# Altium footprint library Fuses.PcbLib: 2 footprints
Each footprint in its own frame and in the unit in brackets; x right, y up, seen from the top. Pads: shape width x height; smd on the part's side, far side on the other; paste and mask are expansions set on the pad; w line width, h text height; cw(c..) or ccw(c..) is an arc to the next point about the centre after c.
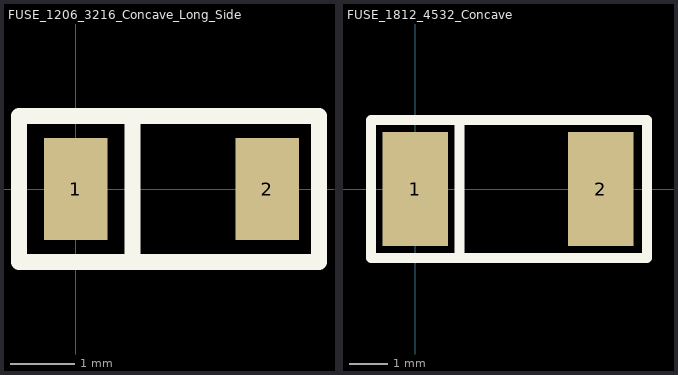
[diagram p0: the footprints below, top view; thin cyan lines are the x and y axes]

## FUSE_1206_3216_Concave_Long_Side [mm] "1206 (3216 Metric), Concave, Long Side Terminals"
height 1
pads (2):
  rect 1x1.6 smd: 1(0,0) 2(3,0)
Top Overlay:
  lines w0.254: 0.889,-1.143 0.889,1.143 ; -0.889,-1.143 -0.889,1.143 3.81,1.143 3.81,-1.143 -0.889,-1.143

## FUSE_1812_4532_Concave [mm] "1812 (4532 Metric), Concave"
height 1
pads (2):
  rect 1.68x2.95 smd: 1(0,0) 2(4.78,0)
Top Overlay:
  lines w0.254: 1.143,-1.778 1.143,1.778 ; -1.143,-1.778 5.969,-1.778 5.969,1.778 -1.143,1.778 -1.143,-1.778